# Altium schematic symbol library RB068L150DDTE25.SchLib: 1 symbol
Pins are listed as number, name and electrical type; pins without a type are passive.

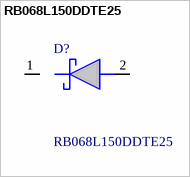
[diagram p0: symbol RB068L150DDTE25]

## RB068L150DDTE25
designator D?
ROHM 150V 2A, Rectifier & Schottky Diode, 2-Pin DO-214AC RB068L150DDTE25; Manufacturer_Name: ROHM Semiconductor; Geometry.Height: 2.2mm; Mouser Part Number: 755-RB068L150DDTE25; Mouser Price/Stock: https://www.mouser.co.uk/ProductDetail/ROHM-Semiconductor/RB068L150DDTE25?qs=HXFqYaX1Q2wo%2F7dyRQhxHg%3D%3D; Manufacturer_Part_Number: RB068L150DDTE25; Datasheet Link: https://fscdn.rohm.com/en/products/databook/datasheet/discrete/diode/schottky_barrier/rb068l150ddte25-e.pdf
footprint DIOM5026X220N
pins: 1 K, 2 A